# Altium schematic symbol library Miscellaneous.SchLib: 3 symbols
Pins are listed as number, name and electrical type; pins without a type are passive.

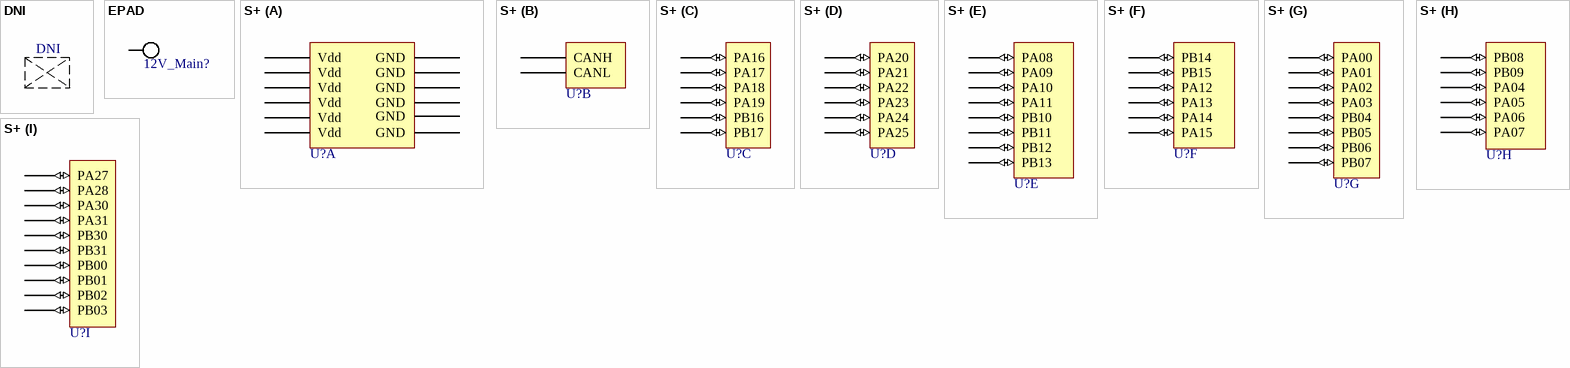
[diagram p0: symbols DNI to S+]

## DNI
designator DNI?, comment DO NOT INSTALL  (value not drawn)  (graphical)

## EPAD
designator 12V_Main?  (value not drawn)  (no BOM)
Pad for probing signals
footprint EPAD
pins: 1

## S+
designator U?  (value not drawn)
Need to get 4 of PPPC161LFBN-RC; Digi-key: https://www.digikey.com/product-detail/en/sullins-connector-solutions/PPPC161LFBN-RC/S7049-ND/810188; datasheet: https://media.digikey.com/pdf/Data%20Sheets/Sullins%20PDFs/Female_Headers.100_DS.pdf
footprint Compute S+
part A pins: GND, GND, GND, GND, GND, GND, Vdd, Vdd, Vdd, Vdd, Vdd, Vdd
part B pins: CANH, CANL
part C pins: PA16 (io), PA17 (io), PA18 (io), PA19 (io), PB16 (io), PB17 (io)
part D pins: PA20 (io), PA21 (io), PA22 (io), PA23 (io), PA24 (io), PA25 (io)
part E pins: PA08 (io), PA09 (io), PA10 (io), PA11 (io), PB10 (io), PB11 (io), PB12 (io), PB13 (io)
part F pins: PA12 (io), PA13 (io), PA14 (io), PB09 PA15 (io), PB14 (io), PB15 (io)
part G pins: PA00 (io), PA01 (io), PA02 (io), PA03 (io), PB04 (io), PB05 (io), PB06 (io), PB07 (io)
part H pins: PA04 (io), PA05 (io), PA06 (io), PA07 (io), PB08 (io), PB09 (io)
part I pins: PA27 (io), PA28 (io), PA30 (io), PA31 (io), PB00 (io), PB01 (io), PB02 (io), PB03 (io), PB30 (io), PB31 (io)
1 alternate drawing of the same symbol